# Altium footprint library MainPcblib.PcbLib: 316 footprints (part 15 of 20)
Each footprint in its own frame and in the unit in brackets; x right, y up, seen from the top. Pads: shape width x height; smd on the part's side, far side on the other; paste and mask are expansions set on the pad; w line width, h text height; cw(c..) or ccw(c..) is an arc to the next point about the centre after c.
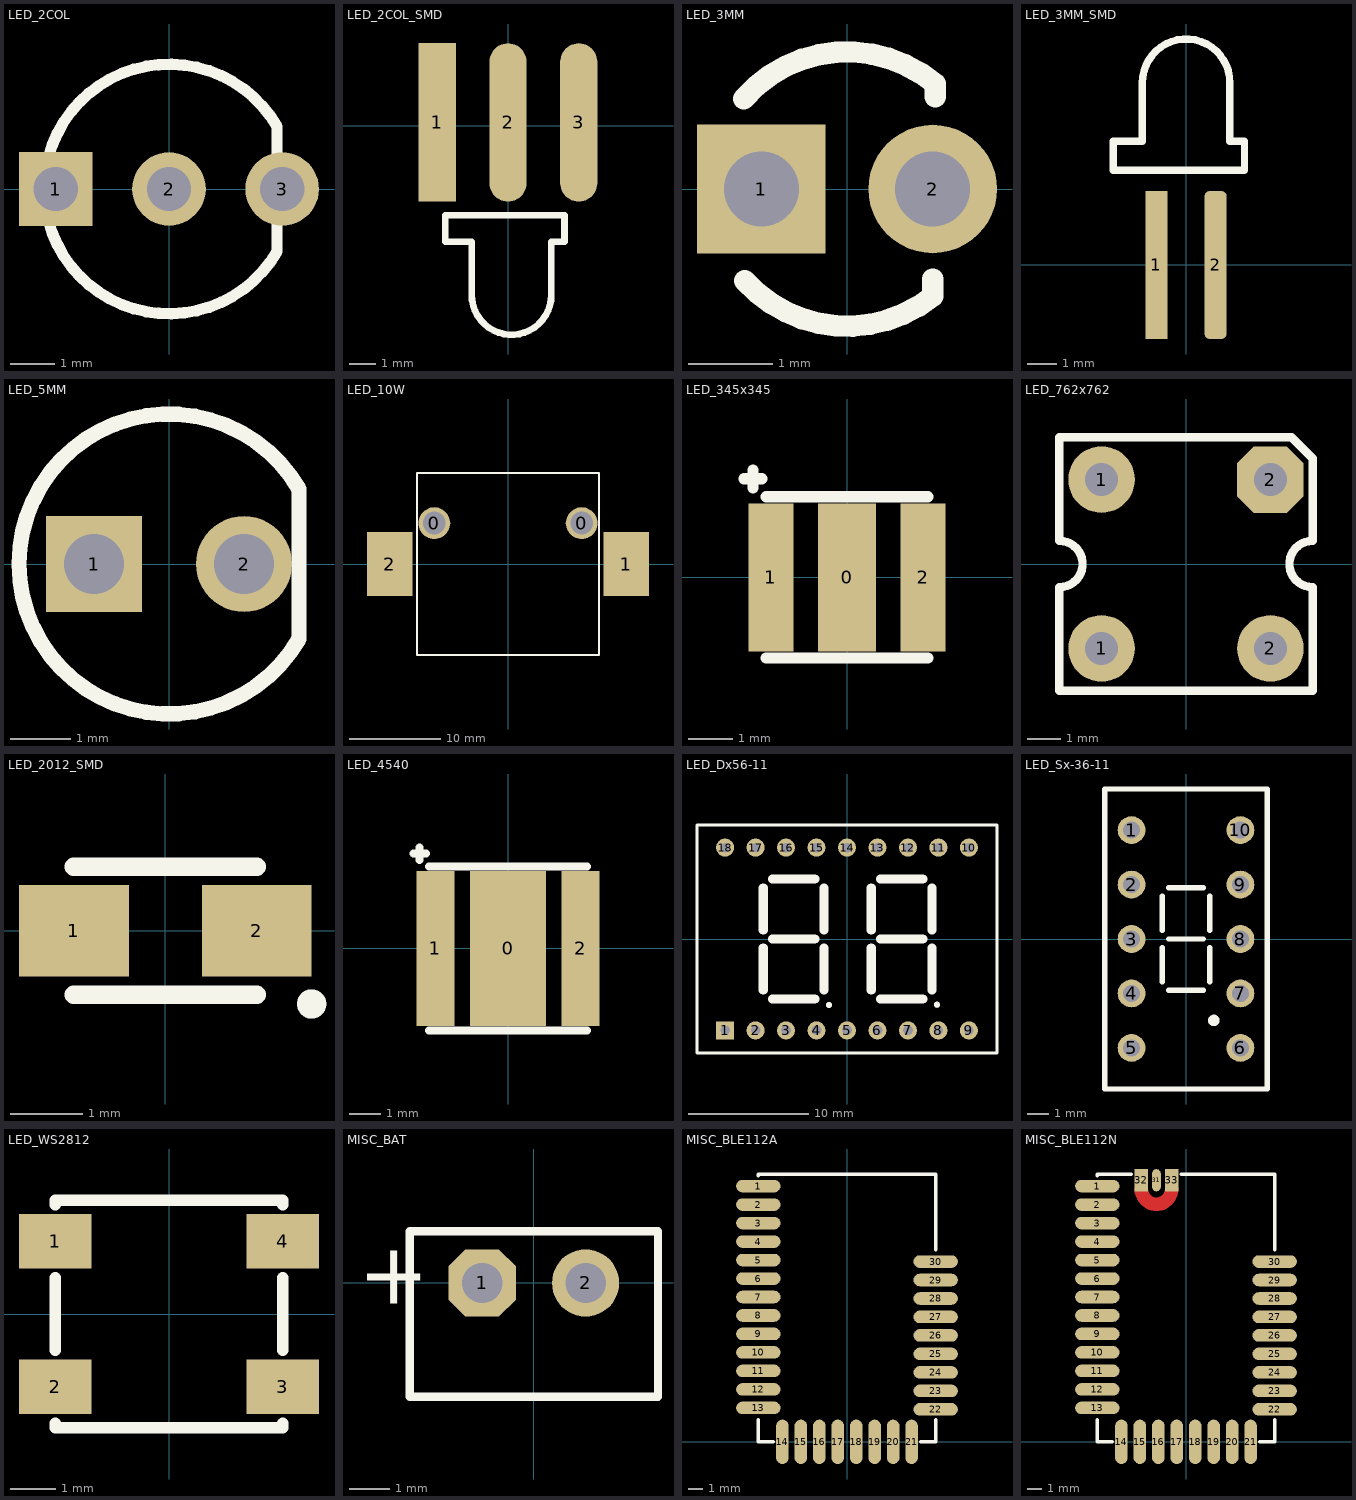
[diagram p14: the footprints below, top view; thin cyan lines are the x and y axes]

## LED_2COL [mil] "two-color led"
height 196.85
pads (3):
  rect 65x65 hole 39.02: 1(-100,0)
  round 65 hole 39: 2(0,0)
  round 65 hole 39.02: 3(100,0)
Top Overlay:
  lines w9.84: 95.47,-55.12 95.47,55.12
  lines w10: 95.47,-55.12 cw(c0,0) 95.47,55.12

## LED_2COL_SMD [mil]
pads (3):
  rect 55x235 smd: 1(-105,5)
  oval 55x235 smd: 2(0,5) 3(105,5)
Top Overlay:
  lines w10: -93.19,-172.17 -93.19,-132.8 83.98,-132.8 83.98,-172.17 64.29,-172.17 64.29,-250.91 cw(c5.24,-250.91) -53.82,-250.91 -53.82,-172.17 -93.19,-172.17

## LED_3MM [mil] "LED 3MM"
pads (2):
  rect 60x60 hole 35: 1(-40,0)
  round 60 hole 35: 2(40,0)
Top Overlay:
  lines w10: -48.19,42.16 cw(c0,0) 41.16,49.05 41.16,43 ; -47.69,-42.72 ccw(c0,0) 40,-50 40,-42

## LED_3MM_SMD [mil]
height 118.11
pads (2):
  rect 30x200 smd: 1(-40,0)
  rrect50% 30x200 smd: 2(40,0)
Top Overlay:
  lines w10: -98.19,127.8 -98.19,167.17 -58.82,167.17 -58.82,245.91 cw(c0.24,245.91) 59.29,245.91 59.29,167.17 78.98,167.17 78.98,127.8 -98.19,127.8

## LED_5MM [mm] "LED 5MM"
pads (2):
  rect 1.6x1.6 hole 1: 1(-1.25,0)
  round 1.6 hole 1: 2(1.25,0)
Top Overlay:
  lines w0.254: 2.165,-1.25 cw(c0,0) 2.165,1.25 2.165,-1.25

## LED_10W [mm] "10W led chip 3x3"
pads (4):
  round 3.5 hole 2.5: 0(-8.1,4.5) 0(8.1,4.5)
  rect 5x7 smd: 1(13,0) 2(-13,0)
Top Overlay:
  lines w0.254: -10,-10 10,-10 10,10 -10,10 -10,-10

## LED_345x345 [mm] "SDM Led - CREE XlampX, etc."
height 2
pads (3):
  rect 1.3x3.3 smd: 0(0,0)
  rect 1x3.3 smd: 1(-1.7,0) 2(1.7,0)
Top Overlay:
  lines w0.254: -2.3,2.2 -1.9,2.2 ; -2.1,2 -2.1,2.4 ; -1.8,-1.8 1.8,-1.8 ; -1.8,1.8 1.8,1.8

## LED_762x762 [mm] "7.62x7.62 led - L-7679C1QBC-D, OSG58AZHA1D"
height 2.5
pads (4):
  round 2 hole 1: 1(-2.54,-2.54) 1(-2.54,2.54) 2(2.54,-2.54)
  oct 2x2 hole 1: 2(2.54,2.54)
Top Overlay:
  lines w0.254: -3.81,-3.81 3.81,-3.81 3.81,-0.7 cw(c3.81,0) 3.81,0.7 3.81,3.175 3.175,3.81 -3.81,3.81 -3.81,0.7 cw(c-3.81,0) -3.81,-0.7 -3.81,-3.81

## LED_2012_SMD [mil] "SMD Led 2012"
pads (2):
  rect 60x50 smd: 1(-50,0) 2(50,0)
Top Overlay:
  circle w8: c80,-40 r4
  lines w10: -50,-35 50,-35 ; -50,35 50,35

## LED_4540 [mm] "SDM Led - CREE Xlamp4550"
height 2
pads (3):
  rect 2.4x4.9 smd: 0(0,0)
  rect 1.2x4.9 smd: 1(-2.3,0) 2(2.3,0)
Top Overlay:
  lines w0.254: -3,3 -2.6,3 ; -2.8,2.8 -2.8,3.2 ; -2.5,-2.6 2.5,-2.6 ; -2.5,2.6 2.5,2.6

## LED_Dx56-11 [mm] "dual 7-segment LED module"
pads (18):
  rect 1.5x1.5 hole 0.8: 1(-10.16,-7.62)
  round 1.5 hole 0.8: 2(-7.62,-7.62) 3(-5.08,-7.62) 4(-2.54,-7.62) 5(0,-7.62) 6(2.54,-7.62) 7(5.08,-7.62) 8(7.62,-7.62) 9(10.16,-7.62) 10(10.16,7.62) 11(7.62,7.62) 12(5.08,7.62) 13(2.54,7.62) 14(0,7.62) 15(-2.54,7.62) 16(-5.08,7.62) 17(-7.62,7.62) 18(-10.16,7.62)
Top Overlay:
  circle w0.254: c7.5,-5.475 r0.127
  circle w0.254: c-1.5,-5.5 r0.127
  region: 
  region: 
  lines w0.254: -12.5,-9.5 12.5,-9.5 12.5,9.5 -12.5,9.5 -12.5,-9.5
  lines w0.758: -6.98,-4.25 -6.98,-0.75 ; -6.98,0.75 -6.98,4.25 ; -6.222,-5 -2.686,-5 ; -6.222,0 -2.686,0 ; -6.222,5 -2.686,5 ; -1.928,-4.25 -1.928,-0.75 ; -1.928,0.75 -1.928,4.25 ; 2.02,-4.25 2.02,-0.75 ; 2.02,0.75 2.02,4.25 ; 2.778,-5 6.314,-5 ; 2.778,0 6.314,0 ; 2.778,5 6.314,5 ; 7.072,-4.25 7.072,-0.75 ; 7.072,0.75 7.072,4.25

## LED_Sx-36-11 [mm] "for SC-36-11, SA-36-11 led indicators"
height 8.5
pads (10):
  round 1.3 hole 0.8: 1(-2.54,5.08) 2(-2.54,2.54) 3(-2.54,0) 4(-2.54,-2.54) 5(-2.54,-5.08) 6(2.54,-5.08) 7(2.54,-2.54) 8(2.54,0) 9(2.54,2.54) 10(2.54,5.08)
Top Overlay:
  circle w0.254: c1.3,-3.8 r0.141
  lines w0.254: -1.1,-2 -1.1,-0.4 ; -1.1,0.4 -1.1,2 ; -0.8,-2.4 0.8,-2.4 ; -0.8,0 0.8,0 ; -0.8,2.4 0.8,2.4 ; 1.1,-2 1.1,-0.4 ; 1.1,0.4 1.1,2 ; -3.8,-7 -3.8,7 3.8,7 3.8,-7 -3.8,-7

## LED_WS2812 [mm]
pads (4):
  rect 1.6x1.2 smd: 1(-2.5,1.6) 2(-2.5,-1.6) 3(2.5,-1.6) 4(2.5,1.6)
Top Overlay:
  lines w0.254: -2.5,-2.4 -2.5,-2.5 2.5,-2.5 2.5,-2.4 ; -2.5,-0.8 -2.5,0.8 ; -2.5,2.4 -2.5,2.5 2.5,2.5 2.5,2.4 ; 2.5,-0.8 2.5,0.8

## MISC_BAT [mil]
pads (2):
  oct 65x65 hole 39: 1(-50,0)
  round 65 hole 39: 2(50,0)
Top Overlay:
  lines w8: -120,-110 -120,50 120,50 120,-110 -120,-110
  text "+" at -170,-20 h60

## MISC_BLE112A [mm] "Bluetooth module"
pads (30):
  oval 3x0.85 smd: 1(-6,17.3) 2(-6,16.05) 3(-6,14.8) 4(-6,13.55) 5(-6,12.3) 6(-6,11.05) 7(-6,9.8) 8(-6,8.55) 9(-6,7.3) 10(-6,6.05) 11(-6,4.8) 12(-6,3.55) 13(-6,2.3) 22(6,2.2) 23(6,3.45) 24(6,4.7) 25(6,5.95) 26(6,7.2) 27(6,8.45) 28(6,9.7) 29(6,10.95) 30(6,12.2)
  oval 0.85x3 smd: 14(-4.375,0) 15(-3.125,0) 16(-1.875,0) 17(-0.625,0) 18(0.625,0) 19(1.875,0) 20(3.125,0) 21(4.375,0)
Top Overlay:
  lines w0.254: -6,1.5 -6,0 -5,0 ; -6,18 -6,18.1 6,18.1 6,13 ; 5,0 6,0 6,1.5

## MISC_BLE112N [mm] "Bluetooth module"
pads (33):
  oval 3x0.85 smd: 1(-6,17.3) 2(-6,16.05) 3(-6,14.8) 4(-6,13.55) 5(-6,12.3) 6(-6,11.05) 7(-6,9.8) 8(-6,8.55) 9(-6,7.3) 10(-6,6.05) 11(-6,4.8) 12(-6,3.55) 13(-6,2.3) 22(6,2.2) 23(6,3.45) 24(6,4.7) 25(6,5.95) 26(6,7.2) 27(6,8.45) 28(6,9.7) 29(6,10.95) 30(6,12.2)
  oval 0.85x3 smd: 14(-4.375,0) 15(-3.125,0) 16(-1.875,0) 17(-0.625,0) 18(0.625,0) 19(1.875,0) 20(3.125,0) 21(4.375,0)
  oval 0.6x1.5 smd: 31(-2,17.7)
  rect 0.92x1.5 smd: 32(-3.025,17.7) 33(-0.975,17.7)
Top Layer:
  lines w0.92: -3.025,17.1 ccw(c-2,17.1) -0.975,17.1
Top Overlay:
  lines w0.254: -6,1.5 -6,0 -5,0 ; -6,18 -6,18.1 -3.7,18.1 ; -0.3,18.1 6,18.1 6,13 ; 5,0 6,0 6,1.5
Top Solder:
  lines w1.1: -3.025,17.1 ccw(c-2,17.1) -0.975,17.1